# Altium footprint library DFLS240-7.PcbLib: 3 footprints
Each footprint in its own frame and in the unit in brackets; x right, y up, seen from the top. Pads: shape width x height; smd on the part's side, far side on the other; paste and mask are expansions set on the pad; w line width, h text height; cw(c..) or ccw(c..) is an arc to the next point about the centre after c.
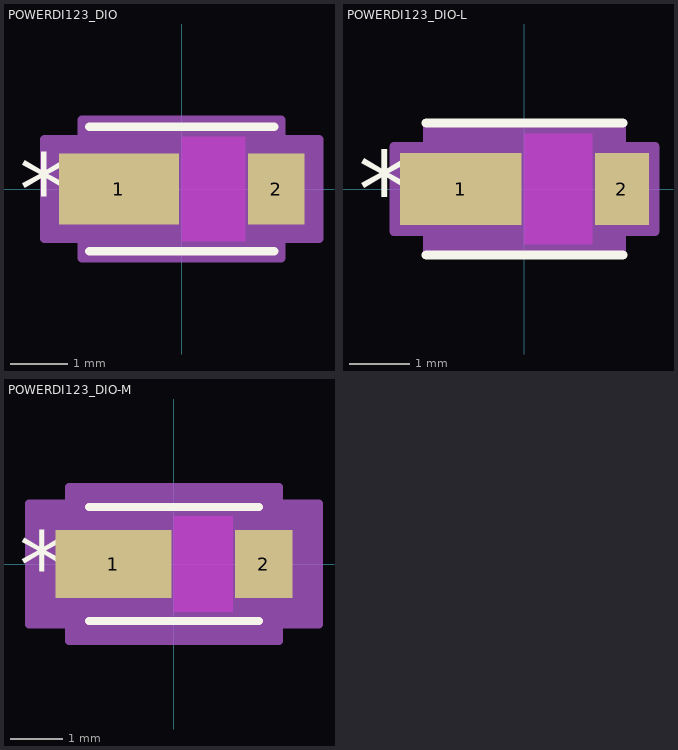
[diagram p0: the footprints below, top view; thin cyan lines are the x and y axes]

## POWERDI123_DIO [mil]
pads (2):
  rect 83x49 smd paste+0 mask+0: 1(-43.5,0)
  rect 39x49 smd paste+0 mask+0: 2(65.5,0)
Top Layer keep-out:
  region: 0,-36 0,36 44,36 44,-36
Top Overlay:
  lines w6: -64,-43 64,-43 ; -64,43 64,43
  text ".Designator" at -137.5,-25 h50
  text "*" at -112.5,-25 h50
Keep-Out Layer:
  region: 0,-36 0,36 44,36 44,-36
Mechanical 13:
  lines w1: -59,-19 -40,-38 ; -59,19 -40,38 ; -77,-24.5 -77,24.5 -59,24.5 -59,-24.5 -77,-24.5 ; -59,-38 59,-38 59,38 -59,38 -59,-38 ; 59,-24.5 59,24.5 77,24.5 77,-24.5 59,-24.5
  text "*" at -61.5,-25 h50
  text ".Designator" at -137.5,-25 h50
Mechanical 15:
  region: -69,-34.5 -95,-34.5 -95,34.5 -69,34.5 -69,48 69,48 69,34.5 95,34.5 95,-34.5 69,-34.5 69,-48 -69,-48
  lines w6: -95,-34.5 -95,34.5 -69,34.5 -69,48 69,48 69,34.5 95,34.5 95,-34.5 69,-34.5 69,-48 -69,-48 -69,-34.5 -95,-34.5
3D body "POWERDI123_DIO.step": height 32.09, standoff 0, extent -77.01,-37.99 77.01,37.99

## POWERDI123_DIO-L [mil]
pads (2):
  rect 79x47 smd paste+0 mask+0: 1(-41.5,0)
  rect 35x47 smd paste+0 mask+0: 2(63.5,0)
Top Layer keep-out:
  region: 0,-36 0,36 44,36 44,-36
Top Overlay:
  lines w6: -64,-43 64,-43 ; -64,43 64,43
  text ".Designator" at -137.5,-25 h50
  text "*" at -108.5,-25 h50
Keep-Out Layer:
  region: 0,-36 0,36 44,36 44,-36
Mechanical 13:
  lines w1: -59,-19 -40,-38 ; -59,19 -40,38 ; -77,-24.5 -77,24.5 -59,24.5 -59,-24.5 -77,-24.5 ; -59,-38 59,-38 59,38 -59,38 -59,-38 ; 59,-24.5 59,24.5 77,24.5 77,-24.5 59,-24.5
  text "*" at -61.5,-25 h50
  text ".Designator" at -137.5,-25 h50
Mechanical 15:
  region: -63,-27.5 -85,-27.5 -85,27.5 -63,27.5 -63,42 63,42 63,27.5 85,27.5 85,-27.5 63,-27.5 63,-42 -63,-42
  lines w6: -85,-27.5 -85,27.5 -63,27.5 -63,42 63,42 63,27.5 85,27.5 85,-27.5 63,-27.5 63,-42 -63,-42 -63,-27.5 -85,-27.5
3D body "POWERDI123_DIO.step": height 32.09, standoff 0, extent -77.01,-37.99 77.01,37.99

## POWERDI123_DIO-M [mil]
pads (2):
  rect 87x51 smd paste+0 mask+0: 1(-45.5,0)
  rect 43x51 smd paste+0 mask+0: 2(67.5,0)
Top Layer keep-out:
  region: 0,-36 0,36 44,36 44,-36
Top Overlay:
  lines w6: -64,-43 64,-43 ; -64,43 64,43
  text ".Designator" at -137.5,-25 h50
  text "*" at -116.5,-25 h50
Keep-Out Layer:
  region: 0,-36 0,36 44,36 44,-36
Mechanical 13:
  lines w1: -59,-19 -40,-38 ; -59,19 -40,38 ; -77,-24.5 -77,24.5 -59,24.5 -59,-24.5 -77,-24.5 ; -59,-38 59,-38 59,38 -59,38 -59,-38 ; 59,-24.5 59,24.5 77,24.5 77,-24.5 59,-24.5
  text "*" at -61.5,-25 h50
  text ".Designator" at -137.5,-25 h50
Mechanical 15:
  region: -79,-45.5 -109,-45.5 -109,45.5 -79,45.5 -79,58 79,58 79,45.5 109,45.5 109,-45.5 79,-45.5 79,-58 -79,-58
  lines w6: -109,-45.5 -109,45.5 -79,45.5 -79,58 79,58 79,45.5 109,45.5 109,-45.5 79,-45.5 79,-58 -79,-58 -79,-45.5 -109,-45.5
3D body "POWERDI123_DIO.step": height 32.09, standoff 0, extent -77.01,-37.99 77.01,37.99